# EAGLE library part 692121230100 (library InputOutputIO (rev18b))
WR-COM - USB 3.0 HORIZONTAL TYPE A WITH OFFSET 1.04 MM Characteristics MATERIAL PROPERTIES INSULATOR: Color Blue Insulator Material LCP Contact Material Phosphor Bronze Contact Plating Mat Tin over Nickel Contact Type Stamped Cover Material Brass Cover PlatingMat Tin KIND PROPERTIES Quality Class50 000 Mating cycles GENERAL INFORMATION Operating Temperature -20 °C up to +60 °C Insulator Flammability Rating UL94-V0 ELECTRICAL PROPERTIES Rated Current 0.25 A Working Voltage 30 V (AC) Withstanding Voltage 100 V (AC) Contact Resistance 50 mΩ Insulation Resistance 100 MΩ PACKAGING PROPERTIES Packaging Tape and Reel <http://katalog.we-online.de/media/images/v2/Family_WR-COM_692121230100.jpg> Details see: http://katalog.we-online.de/en/em/COM_3_0_TYPE_A_HORIZONTAL_W_OFFSET_1_04MM 2016 (C) Wurth Elektronik
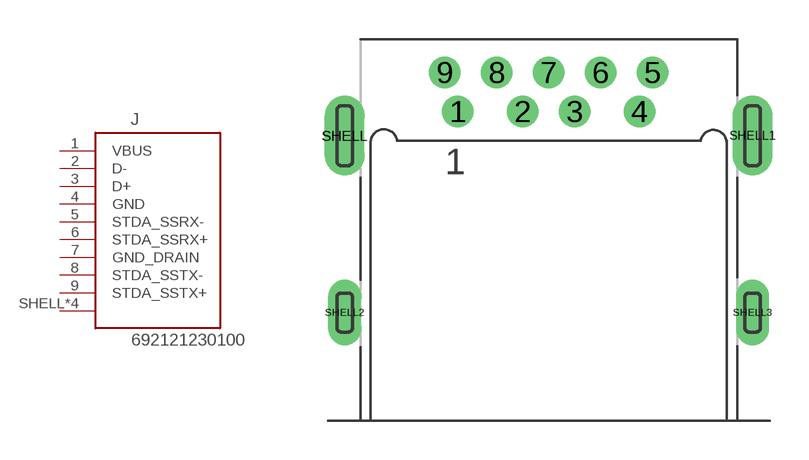
[diagram p173: symbol with the pads of 692121230100; footprint 692121230100]

Designator prefix J

## 692121230100  [692121230100]
1  VBUS
2  D-
3  D+
4  GND
5  STDA_SSRX-
6  STDA_SSRX+
7  GND_DRAIN
8  STDA_SSTX-
9  STDA_SSTX+
SHELL  SHIELD
SHELL1  SHIELD
SHELL2  SHIELD
SHELL3  SHIELD

## Footprint 692121230100 (pad centres in mm)
WR-COM - USB 3.0 HORIZONTAL TYPE A WITH OFFSET 1.04 MM
drill 0.7: 1 -3.5,0.93; 2 -1,0.93; 3 1,0.93; 4 3.5,0.93; 5 4,2.43; 6 2,2.43; 7 0,2.43; 8 -2,2.43; 9 -4,2.43
drill 0.6 pad 1.54 long: SHELL -7.85,0; SHELL1 7.85,0
drill 0.6 pad 1.27 long: SHELL2 -7.85,-6.8; SHELL3 7.85,-6.8